# Altium footprint library SMAJ58CA.PcbLib: 3 footprints
Each footprint in its own frame and in the unit in brackets; x right, y up, seen from the top. Pads: shape width x height; smd on the part's side, far side on the other; paste and mask are expansions set on the pad; w line width, h text height; cw(c..) or ccw(c..) is an arc to the next point about the centre after c.
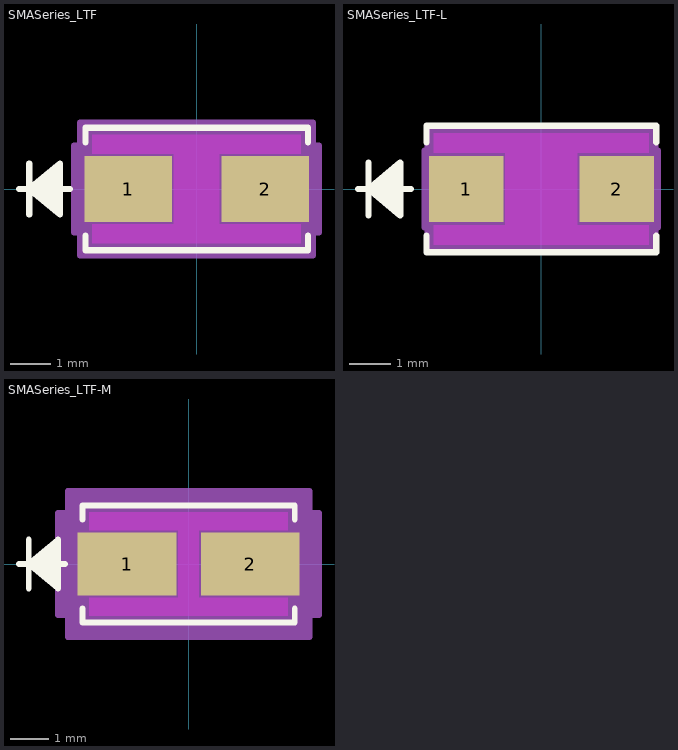
[diagram p0: the footprints below, top view; thin cyan lines are the x and y axes]

## SMASeries_LTF [mil]
pads (2):
  rect 85.59x65 smd paste+0 mask+0: 1(-67.11,0) 2(67.11,0)
Top Layer keep-out:
  region: -22.32,-34.5 -22.32,34.5 22.32,34.5 22.32,-34.5
  region: -102,34.5 -102,53 102,53 102,34.5
  region: -102,-53 -102,-34.5 102,-34.5 102,-53
Top Overlay:
  lines w6: -174,0 -124,0 ; -164,-25 -164,25 ; -134,-20 -164,0 ; -134,-15 -164,0 ; -134,-10 -164,0 ; -134,-5 -164,0 ; -134,5 -164,0 ; -134,10 -164,0 ; -134,15 -164,0 ; -134,20 -164,0 ; -109,-45.6 -109,-60 109,-60 109,-45.6 ; -109,45.6 -109,60 109,60 109,45.6 ; -164,0 -134,25 -134,-25 -164,0
  text ".Designator" at -137.5,-25 h50
Keep-Out Layer:
  region: -22.32,-34.5 -22.32,34.5 22.32,34.5 22.32,-34.5
Mechanical 13:
  lines w1: -174,0 -124,0 ; -164,-25 -164,25 ; -134,-20 -164,0 ; -134,-15 -164,0 ; -134,-10 -164,0 ; -134,-5 -164,0 ; -134,5 -164,0 ; -134,10 -164,0 ; -134,15 -164,0 ; -134,20 -164,0 ; -164,0 -134,25 -134,-25 -164,0 ; -104,-55 104,-55 104,55 -104,55 -104,-55
  text ".Designator" at -137.5,-25 h50
Mechanical 15:
  region: -114,-42.5 -119.91,-42.5 -119.91,42.5 -114,42.5 -114,65 114,65 114,42.5 119.91,42.5 119.91,-42.5 114,-42.5 114,-65 -114,-65
  lines w6: -119.91,-42.5 -119.91,42.5 -114,42.5 -114,65 114,65 114,42.5 119.91,42.5 119.91,-42.5 114,-42.5 114,-65 -114,-65 -114,-42.5 -119.91,-42.5
3D body "SMASeries_LTF.step": height 92.01, standoff 0, extent -104.02,-55 104.02,55

## SMASeries_LTF-L [mil]
pads (2):
  rect 70.63x63.03 smd paste+0 mask+0: 1(-71.44,0) 2(71.44,0)
Top Layer keep-out:
  region: -34.13,-34.5 -34.13,34.5 34.13,34.5 34.13,-34.5
  region: -102,34.5 -102,53 102,53 102,34.5
  region: -102,-53 -102,-34.5 102,-34.5 102,-53
Top Overlay:
  lines w6: -174,0 -124,0 ; -164,-25 -164,25 ; -134,-20 -164,0 ; -134,-15 -164,0 ; -134,-10 -164,0 ; -134,-5 -164,0 ; -134,5 -164,0 ; -134,10 -164,0 ; -134,15 -164,0 ; -134,20 -164,0 ; -109,-44.42 -109,-60 109,-60 109,-44.42 ; -109,44.42 -109,60 109,60 109,44.42 ; -164,0 -134,25 -134,-25 -164,0
  text ".Designator" at -137.5,-25 h50
Keep-Out Layer:
  region: -34.13,-34.5 -34.13,34.5 34.13,34.5 34.13,-34.5
Mechanical 13:
  lines w1: -174,0 -124,0 ; -164,-25 -164,25 ; -134,-20 -164,0 ; -134,-15 -164,0 ; -134,-10 -164,0 ; -134,-5 -164,0 ; -134,5 -164,0 ; -134,10 -164,0 ; -134,15 -164,0 ; -134,20 -164,0 ; -164,0 -134,25 -134,-25 -164,0 ; -104,-55 104,-55 104,55 -104,55 -104,-55
  text ".Designator" at -137.5,-25 h50
Mechanical 15:
  region: -108,-36.5 -110.76,-36.5 -110.76,36.5 -108,36.5 -108,59 108,59 108,36.5 110.76,36.5 110.76,-36.5 108,-36.5 108,-59 -108,-59
  lines w6: -110.76,-36.5 -110.76,36.5 -108,36.5 -108,59 108,59 108,36.5 110.76,36.5 110.76,-36.5 108,-36.5 108,-59 -108,-59 -108,-36.5 -110.76,-36.5
3D body "SMASeries_LTF.step": height 92.01, standoff 0, extent -104.02,-55 104.02,55

## SMASeries_LTF-M [mil]
pads (2):
  rect 101.34x65 smd paste+0 mask+0: 1(-63.17,0) 2(63.17,0)
Top Layer keep-out:
  region: -10.5,-34.5 -10.5,34.5 10.5,34.5 10.5,-34.5
  region: -102,34.5 -102,53 102,53 102,34.5
  region: -102,-53 -102,-34.5 102,-34.5 102,-53
Top Overlay:
  lines w6: -174,0 -126.94,0 ; -164,-25 -164,25 ; -134,-20 -164,0 ; -134,-15 -164,0 ; -134,-10 -164,0 ; -134,-5 -164,0 ; -134,5 -164,0 ; -134,10 -164,0 ; -134,15 -164,0 ; -134,20 -164,0 ; -109,-45.6 -109,-60 109,-60 109,-45.6 ; -109,45.6 -109,60 109,60 109,45.6 ; -164,0 -134,25 -134,-25 -164,0
  text ".Designator" at -137.5,-25 h50
Keep-Out Layer:
  region: -10.5,-34.5 -10.5,34.5 10.5,34.5 10.5,-34.5
Mechanical 13:
  lines w1: -174,0 -124,0 ; -164,-25 -164,25 ; -134,-20 -164,0 ; -134,-15 -164,0 ; -134,-10 -164,0 ; -134,-5 -164,0 ; -134,5 -164,0 ; -134,10 -164,0 ; -134,15 -164,0 ; -134,20 -164,0 ; -164,0 -134,25 -134,-25 -164,0 ; -104,-55 104,-55 104,55 -104,55 -104,-55
  text ".Designator" at -137.5,-25 h50
Mechanical 15:
  region: -124,-52.5 -133.84,-52.5 -133.84,52.5 -124,52.5 -124,75 124,75 124,52.5 133.84,52.5 133.84,-52.5 124,-52.5 124,-75 -124,-75
  lines w6: -133.84,-52.5 -133.84,52.5 -124,52.5 -124,75 124,75 124,52.5 133.84,52.5 133.84,-52.5 124,-52.5 124,-75 -124,-75 -124,-52.5 -133.84,-52.5
3D body "SMASeries_LTF.step": height 92.01, standoff 0, extent -104.02,-55 104.02,55